# Altium footprint library R_1206_2512.PcbLib: 1 footprints
Each footprint in its own frame and in the unit in brackets; x right, y up, seen from the top. Pads: shape width x height; smd on the part's side, far side on the other; paste and mask are expansions set on the pad; w line width, h text height; cw(c..) or ccw(c..) is an arc to the next point about the centre after c.
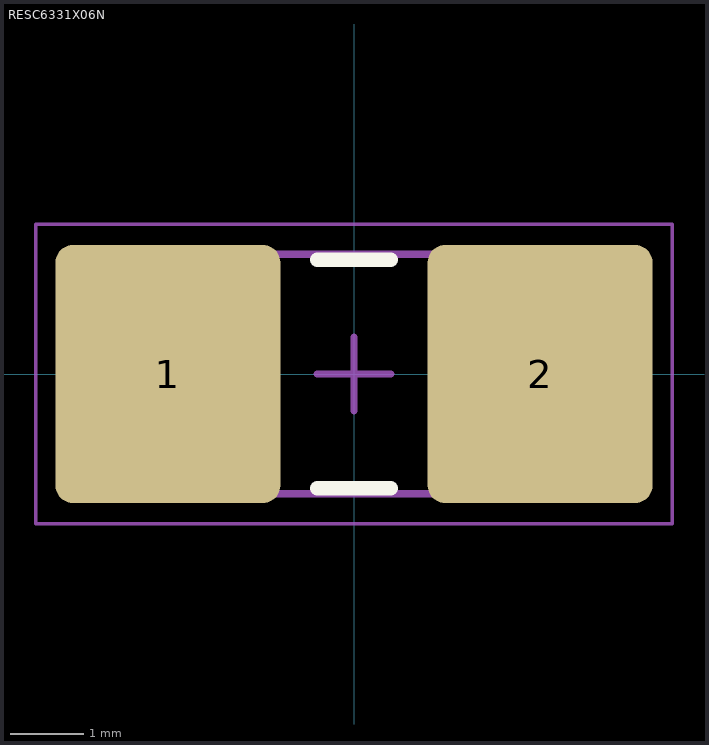
[diagram p0: the footprint, top view; thin cyan lines are the x and y axes]

## RESC6331X06N [mm] "Chip Resistor, 2-Leads, Body 6.30x3.10mm, IPC Medium Density"
height 0.65
pads (2):
  rrect15% 3.05x3.5 smd: 1(-2.525,0) 2(2.525,0)
Top Overlay:
  lines w0.2: -0.5,-1.55 0.5,-1.55 ; -0.5,1.55 0.5,1.55
Mechanical 13:
  lines w0.1: -3.225,-1.625 3.225,-1.625 3.225,1.625 -3.225,1.625 -3.225,-1.625
Mechanical 15:
  lines w0.05: -4.318,-2.032 4.318,-2.032 4.318,2.032 -4.318,2.032 -4.318,-2.032
  lines w0.1: -0.5,0 0.5,0 ; 0,-0.5 0,0.5
3D body "RESC6331X06N.step": height 0.65, standoff 0, extent -3.225,-1.625 3.225,1.625